# EAGLE library part VLMRGB6112 (library adafruit-with-additions)
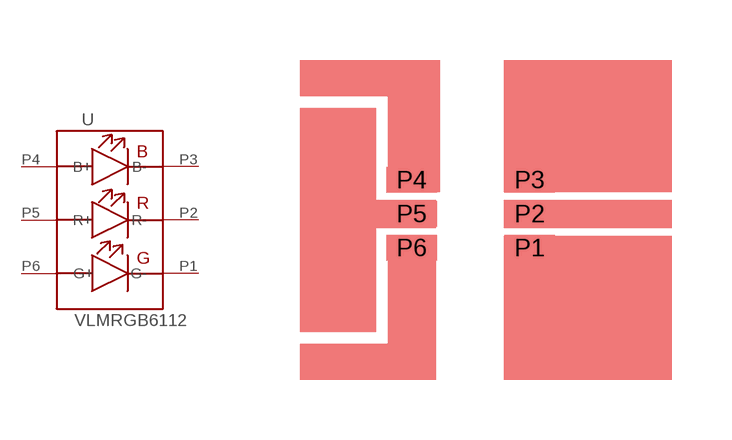
[diagram p123: symbol with the pads of VLMRGB6112; footprint VLMRGB6112]

Designator prefix -

## VLMRGB6112  [VLMRGB6112]
P1  G-
P2  R-
P3  B-
P4  B+
P5  R+
P6  G+

## Footprint VLMRGB6112 (pad centres in mm)
smd 1.27 x 0.635: P1 -1.55,-0.7; P2 -1.55,0.15; P3 -1.55,1; P4 -4.5,1; P5 -4.5,0.15; P6 -4.5,-0.7